# EAGLE library part LMR14050SDDAR (library 24vto12v)
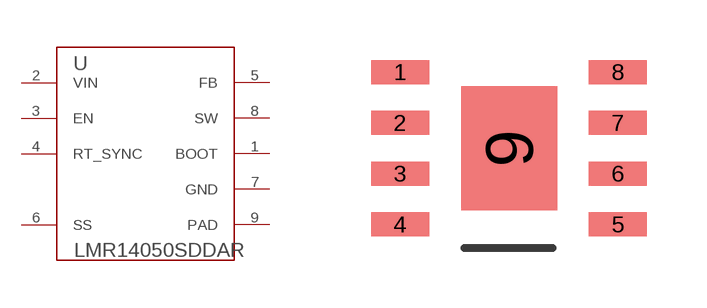
[diagram p0: symbol with the pads of DDA0008E_N; footprint DDA0008E_N]

Designator prefix U

## LMR14050SDDAR (APPLICATION_BUILDNUMBER: *; COMPTYPE: IC; MANUFACTURER: Texas Instruments; MANUFACTURER_NAME: Texas Instruments; MANUFACTURER_PART_NUMBER: LMR14050SDDAR; MOUNTTYPE: SMT; PACKAGEREFERENCE: DDA0008E; PARTNUMBER: LMR14050SDDAR; PIN_COUNT: 9; REFDES: RefDes; ROHS: Y; TYPE: TYPE; VALUE: Value)  [DDA0008E_N]
1  BOOT  pas
2  VIN  pwr
3  EN  in
4  RT_SYNC  pas
5  FB  in
6  SS  in
7  GND  pwr
8  SW  pwr
9  PAD  pwr

## Footprint DDA0008E_N (pad centres in mm)
smd 1.45 x 0.6: 1 -2.725,1.905; 2 -2.725,0.635; 3 -2.725,-0.635; 4 -2.725,-1.905; 5 2.725,-1.905; 6 2.725,-0.635; 7 2.725,0.635; 8 2.725,1.905
smd 2.4 x 3.1: 9 0,0